# Altium schematic symbol library Interface_CurrentLoop.SchLib: 3 symbols
Pins are listed as number, name and electrical type; pins without a type are passive.

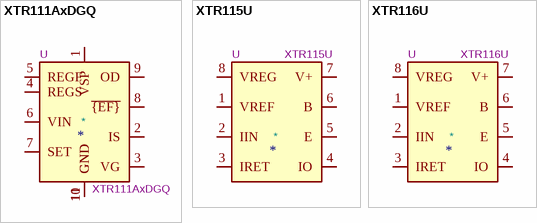
[diagram p0: symbols XTR111AxDGQ to XTR116U]

## XTR111AxDGQ
designator *  value XTR111AxDGQ  Reference: U
0-20mA/4-20mA Current Loop Transmitter, Precision Voltage-To-Current, MSOP-10; ki_keywords: 0-20mA 4-20mA Current Loop Transmitter Voltage To Current; ki_fp_filters: MSOP*1EP*3x3mm*P0.5mm*; Footprint: Package_SO:MSOP-10-1EP_3x3mm_P0.5mm_EP2.2x3.1mm_Mask1.83x1.89mm_ThermalVias; Datasheet: https://www.ti.com/lit/ds/symlink/xtr111.pdf; Description_: 0-20mA/4-20mA Current Loop Transmitter, Precision Voltage-To-Current, MSOP-10
pins: 1 VSP, 2 IS, 3 VG, 4 REGS, 5 REGF, 6 VIN, 7 SET, 8 ~{{EF}}, 9 OD, 10 GND, 11 GND

## XTR115U
designator *  value XTR115U  Reference: U
4-20mA Current Loop Transmitter, VREF 2.5V, SO-8; ki_fp_filters: SOIC*3.9x4.9mm*P1.27mm*; Footprint: Package_SO:SOIC-8_3.9x4.9mm_P1.27mm; Datasheet: http://www.ti.com/lit/ds/symlink/xtr115.pdf; Description_: 4-20mA Current Loop Transmitter, VREF 2.5V, SO-8; ki_keywords: 4-20mA Current Loop Transmitter
pins: 1 VREF, 2 IIN, 3 IRET, 4 IO, 5 E, 6 B, 7 V+, 8 VREG

## XTR116U
designator *  value XTR116U  Reference: U
4-20mA Current Loop Transmitter, VREF 4.096V, SO-8; ki_fp_filters: SOIC*3.9x4.9mm*P1.27mm*; Footprint: Package_SO:SOIC-8_3.9x4.9mm_P1.27mm; Datasheet: http://www.ti.com/lit/ds/symlink/xtr115.pdf; Description_: 4-20mA Current Loop Transmitter, VREF 4.096V, SO-8; ki_keywords: 4-20mA Current Loop Transmitter
pins: 1 VREF, 2 IIN, 3 IRET, 4 IO, 5 E, 6 B, 7 V+, 8 VREG